# Altium footprint library a2.PcbLib: 6 footprints
Each footprint in its own frame and in the unit in brackets; x right, y up, seen from the top. Pads: shape width x height; smd on the part's side, far side on the other; paste and mask are expansions set on the pad; w line width, h text height; cw(c..) or ccw(c..) is an arc to the next point about the centre after c.
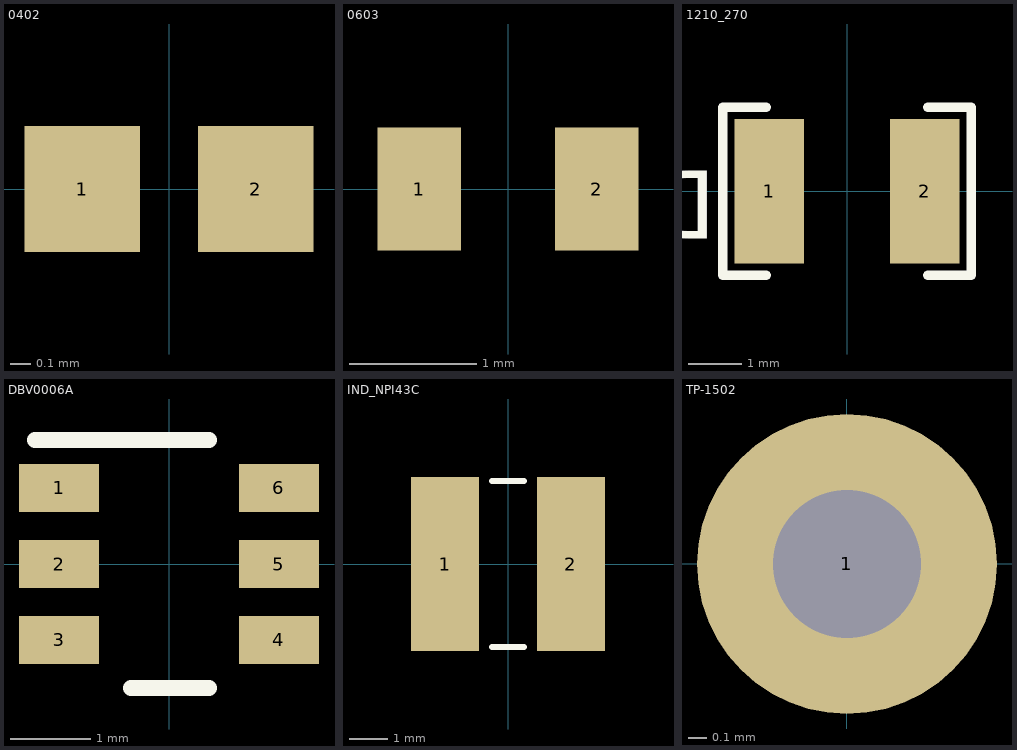
[diagram p0: the footprints below, top view; thin cyan lines are the x and y axes]

## 0402 [mil]
pads (2):
  rect 22x24 smd: 1(-16.5,0) 2(16.5,0)

## 0603 [mil]
pads (2):
  rect 26x38 smd: 1(-27.5,0) 2(27.5,0)

## 1210_270 [mm]
pads (2):
  rect 1.3x2.7 smd: 1(-1.45,0) 2(1.45,0)
Top Overlay:
  lines w0.178: -1.511,-1.568 -2.316,-1.568 -2.316,1.568 -1.511,1.568 ; 1.511,-1.568 2.316,-1.568 2.316,1.568 1.511,1.568
  text "Designator53" at -2.438,0.381 h1.27

## DBV0006A [mm]
pads (6):
  rect 1x0.6 smd: 1(-1.375,0.95) 2(-1.375,0) 3(-1.375,-0.95) 4(1.375,-0.95) 5(1.375,0) 6(1.375,0.95)
Top Overlay:
  lines w0.2: -1.675,1.55 0.5,1.55 ; -0.475,-1.55 0.5,-1.55

## IND_NPI43C [mil]
pads (2):
  rect 69x177 smd: 1(-64,0) 2(64,0)
Top Overlay:
  lines w6: -16.4,-84.5 16.4,-84.5 ; -16.4,84.5 16.4,84.5

## TP-1502 [mil]
pads (1):
  round 65 / inner round 0 / far side round 65 hole 32 unplated: 1(0,0)